# Altium footprint library MOLEX_105405-XXXX.PcbLib: 3 footprints
Each footprint in its own frame and in the unit in brackets; x right, y up, seen from the top. Pads: shape width x height; smd on the part's side, far side on the other; paste and mask are expansions set on the pad; w line width, h text height; cw(c..) or ccw(c..) is an arc to the next point about the centre after c.
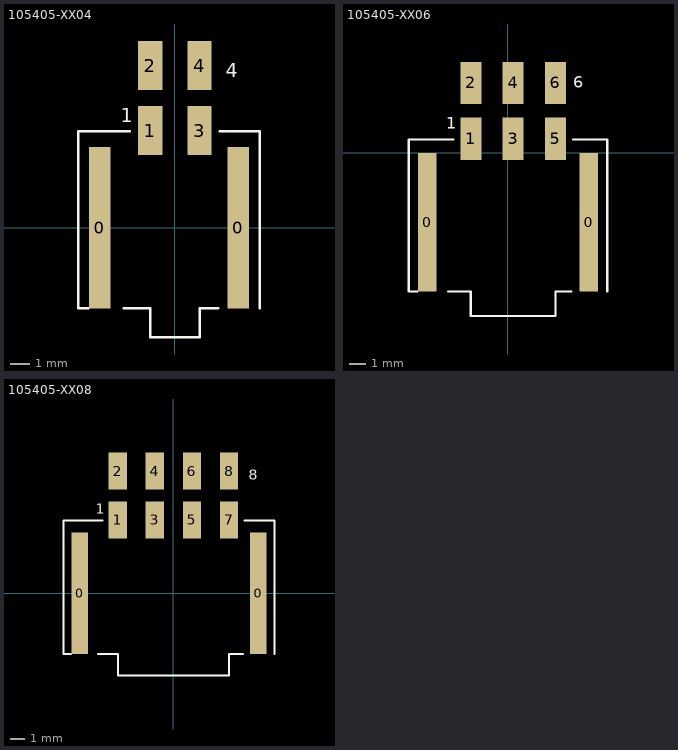
[diagram p0: the footprints below, top view; thin cyan lines are the x and y axes]

## 105405-XX04 [mm]
pads (6):
  rect 1.1x8.2 smd: 0(-3.82,0) 0(3.22,0)
  rect 1.24x2.5 smd: 1(-1.25,4.93) 2(-1.25,8.23) 3(1.25,4.93) 4(1.25,8.23)
Top Overlay:
  lines w0.126: -4.4,-4.1 -4.92,-4.1 -4.92,4.89 -2.286,4.89 ; -2.6,-4.1 -1.25,-4.1 -1.25,-5.56 0,-5.56 1.25,-5.56 1.25,-4.1 2.2,-4.1 ; 2.286,4.89 4.32,4.89 4.32,-4.1
  text "4" at 2.583,7.63 h0.7
  text "1" at -2.751,5.344 h0.7
3D body: height 9.5, standoff 0.01, extent -4.67,-5.959 4.07,8.781

## 105405-XX06 [mm]
pads (8):
  rect 1.1x8.2 smd: 0(-4.77,-4.115) 0(4.77,-4.115)
  rect 1.24x2.5 smd: 1(-2.2,0.815) 2(-2.2,4.115) 3(0.3,0.815) 4(0.3,4.115) 5(2.8,0.815) 6(2.8,4.115)
Top Overlay:
  lines w0.126: -5.35,-8.215 -5.87,-8.215 -5.87,0.775 -3.236,0.775 ; -3.55,-8.215 -2.2,-8.215 -2.2,-9.675 -0.95,-9.675 2.8,-9.675 2.8,-8.215 3.75,-8.215 ; 3.836,0.775 5.87,0.775 5.87,-8.215
  text "1" at -3.64,1.407 h0.7
  text "6" at 3.853,3.82 h0.7
3D body: height 9.5, standoff 0.01, extent -5.652,-10.164 5.588,4.576

## 105405-XX08 [mm]
pads (10):
  rect 1.1x8.2 smd: 0(-6.32,0) 0(5.72,0)
  rect 1.24x2.5 smd: 1(-3.75,4.93) 2(-3.75,8.23) 3(-1.25,4.93) 4(-1.25,8.23) 5(1.25,4.93) 6(1.25,8.23) 7(3.75,4.93) 8(3.75,8.23)
Top Overlay:
  lines w0.126: -6.9,-4.1 -7.42,-4.1 -7.42,4.89 -4.786,4.89 ; -5.1,-4.1 -3.75,-4.1 -3.75,-5.56 0,-5.56 3.75,-5.56 3.75,-4.1 4.7,-4.1 ; 4.786,4.89 6.82,4.89 6.82,-4.1
  text "1" at -5.251,5.344 h0.7
  text "8" at 5.083,7.63 h0.7
3D body: height 9.5, standoff 0.01, extent -7.17,-5.832 6.57,8.908